# Altium integrated library Wuerth Elektronik SMD Power Choke.IntLib: 844 symbols (part 7 of 9)
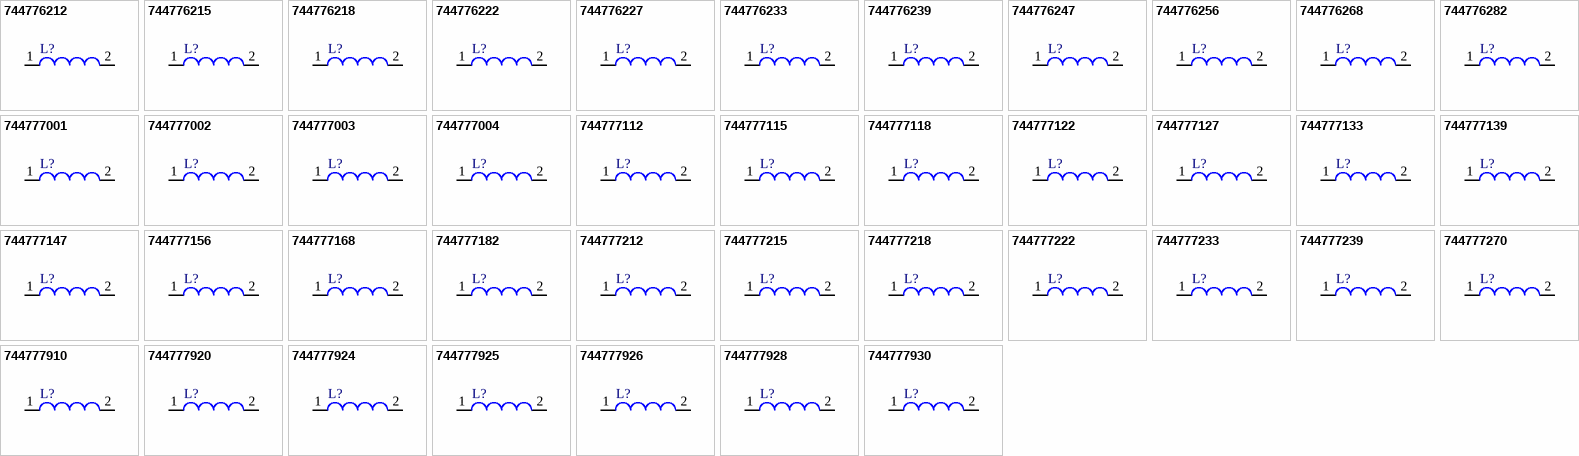
[diagram p28: symbols 744776212 to 744777930]

## 744777112
designator L?
SMD-Shielded Power Inductor WE-PD, L = 12.0 µH; Inductance: 12.0 µH; DatasheetVersion: ver 2, Oct-2004; PackageVersion: 2006; PackageReference: WE-PD-M; PackageDescription: SMD Inductor, 2-Leads, Body 7.3 x 7.3 mm; ComponentLink1Description: Manufacturer URL; ComponentLink1URL: http://www.we-online.com; ComponentLink2Description: Datasheet; ComponentLink2URL: http://www.we-online.de/katalog/media/pdf/744777112.pdf
footprint WE-PD-M (SMD Inductor, 2-Leads, Body 7.3x7.3x4.5 mm)
pins: 1, 2

## 744777115
designator L?
SMD-Shielded Power Inductor WE-PD, L = 15.0 µH; Inductance: 15.0 µH; DatasheetVersion: ver 2, Oct-2004; PackageVersion: 2006; PackageReference: WE-PD-M; PackageDescription: SMD Inductor, 2-Leads, Body 7.3 x 7.3 mm; ComponentLink1Description: Manufacturer URL; ComponentLink1URL: http://www.we-online.com; ComponentLink2Description: Datasheet; ComponentLink2URL: http://www.we-online.de/katalog/media/pdf/744777115.pdf
footprint WE-PD-M (SMD Inductor, 2-Leads, Body 7.3x7.3x4.5 mm)
pins: 1, 2

## 744777118
designator L?
SMD-Shielded Power Inductor WE-PD, L = 18.0 µH; Inductance: 18.0 µH; DatasheetVersion: ver 2, Oct-2004; PackageVersion: 2006; PackageReference: WE-PD-M; PackageDescription: SMD Inductor, 2-Leads, Body 7.3 x 7.3 mm; ComponentLink1Description: Manufacturer URL; ComponentLink1URL: http://www.we-online.com; ComponentLink2Description: Datasheet; ComponentLink2URL: http://www.we-online.de/katalog/media/pdf/744777118.pdf
footprint WE-PD-M (SMD Inductor, 2-Leads, Body 7.3x7.3x4.5 mm)
pins: 1, 2

## 744777122
designator L?
SMD-Shielded Power Inductor WE-PD, L = 22.0 µH; Inductance: 22.0 µH; DatasheetVersion: ver 2, Oct-2004; PackageVersion: 2006; PackageReference: WE-PD-M; PackageDescription: SMD Inductor, 2-Leads, Body 7.3 x 7.3 mm; ComponentLink1Description: Manufacturer URL; ComponentLink1URL: http://www.we-online.com; ComponentLink2Description: Datasheet; ComponentLink2URL: http://www.we-online.de/katalog/media/pdf/744777122.pdf
footprint WE-PD-M (SMD Inductor, 2-Leads, Body 7.3x7.3x4.5 mm)
pins: 1, 2

## 744777127
designator L?
SMD-Shielded Power Inductor WE-PD, L = 27.0 µH; Inductance: 27.0 µH; DatasheetVersion: ver 2, Oct-2004; PackageVersion: 2006; PackageReference: WE-PD-M; PackageDescription: SMD Inductor, 2-Leads, Body 7.3 x 7.3 mm; ComponentLink1Description: Manufacturer URL; ComponentLink1URL: http://www.we-online.com; ComponentLink2Description: Datasheet; ComponentLink2URL: http://www.we-online.de/katalog/media/pdf/744777127.pdf
footprint WE-PD-M (SMD Inductor, 2-Leads, Body 7.3x7.3x4.5 mm)
pins: 1, 2

## 744777133
designator L?
SMD-Shielded Power Inductor WE-PD, L = 33.0 µH; Inductance: 33.0 µH; DatasheetVersion: ver 2, Oct-2004; PackageVersion: 2006; PackageReference: WE-PD-M; PackageDescription: SMD Inductor, 2-Leads, Body 7.3 x 7.3 mm; ComponentLink1Description: Manufacturer URL; ComponentLink1URL: http://www.we-online.com; ComponentLink2Description: Datasheet; ComponentLink2URL: http://www.we-online.de/katalog/media/pdf/744777133.pdf
footprint WE-PD-M (SMD Inductor, 2-Leads, Body 7.3x7.3x4.5 mm)
pins: 1, 2

## 744777139
designator L?
SMD-Shielded Power Inductor WE-PD, L = 39.0 µH; Inductance: 39.0 µH; DatasheetVersion: ver 2, Oct-2004; PackageVersion: 2006; PackageReference: WE-PD-M; PackageDescription: SMD Inductor, 2-Leads, Body 7.3 x 7.3 mm; ComponentLink1Description: Manufacturer URL; ComponentLink1URL: http://www.we-online.com; ComponentLink2Description: Datasheet; ComponentLink2URL: http://www.we-online.de/katalog/media/pdf/744777139.pdf
footprint WE-PD-M (SMD Inductor, 2-Leads, Body 7.3x7.3x4.5 mm)
pins: 1, 2

## 744777147
designator L?
SMD-Shielded Power Inductor WE-PD, L = 47.0 µH; Inductance: 47.0 µH; DatasheetVersion: ver 3, Jan-2006; PackageVersion: 2006; PackageReference: WE-PD-M; PackageDescription: SMD Inductor, 2-Leads, Body 7.3 x 7.3 mm; ComponentLink1Description: Manufacturer URL; ComponentLink1URL: http://www.we-online.com; ComponentLink2Description: Datasheet; ComponentLink2URL: http://www.we-online.de/katalog/media/pdf/744777147.pdf
footprint WE-PD-M (SMD Inductor, 2-Leads, Body 7.3x7.3x4.5 mm)
pins: 1, 2

## 744777156
designator L?
SMD-Shielded Power Inductor WE-PD, L = 56.0 µH; Inductance: 56.0 µH; DatasheetVersion: ver 2, Oct-2004; PackageVersion: 2006; PackageReference: WE-PD-M; PackageDescription: SMD Inductor, 2-Leads, Body 7.3 x 7.3 mm; ComponentLink1Description: Manufacturer URL; ComponentLink1URL: http://www.we-online.com; ComponentLink2Description: Datasheet; ComponentLink2URL: http://www.we-online.de/katalog/media/pdf/744777156.pdf
footprint WE-PD-M (SMD Inductor, 2-Leads, Body 7.3x7.3x4.5 mm)
pins: 1, 2

## 744777168
designator L?
SMD-Shielded Power Inductor WE-PD, L = 68.0 µH; Inductance: 68.0 µH; DatasheetVersion: ver 2, Oct-2004; PackageVersion: 2006; PackageReference: WE-PD-M; PackageDescription: SMD Inductor, 2-Leads, Body 7.3 x 7.3 mm; ComponentLink1Description: Manufacturer URL; ComponentLink1URL: http://www.we-online.com; ComponentLink2Description: Datasheet; ComponentLink2URL: http://www.we-online.de/katalog/media/pdf/744777168.pdf
footprint WE-PD-M (SMD Inductor, 2-Leads, Body 7.3x7.3x4.5 mm)
pins: 1, 2

## 744777182
designator L?
SMD-Shielded Power Inductor WE-PD, L = 82.0 µH; Inductance: 82.0 µH; DatasheetVersion: ver 2, Oct-2004; PackageVersion: 2006; PackageReference: WE-PD-M; PackageDescription: SMD Inductor, 2-Leads, Body 7.3 x 7.3 mm; ComponentLink1Description: Manufacturer URL; ComponentLink1URL: http://www.we-online.com; ComponentLink2Description: Datasheet; ComponentLink2URL: http://www.we-online.de/katalog/media/pdf/744777182.pdf
footprint WE-PD-M (SMD Inductor, 2-Leads, Body 7.3x7.3x4.5 mm)
pins: 1, 2

## 744777212
designator L?
SMD-Shielded Power Inductor WE-PD, L = 120 µH; Inductance: 120 µH; DatasheetVersion: ver 2, Oct-2004; PackageVersion: 2006; PackageReference: WE-PD-M; PackageDescription: SMD Inductor, 2-Leads, Body 7.3 x 7.3 mm; ComponentLink1Description: Manufacturer URL; ComponentLink1URL: http://www.we-online.com; ComponentLink2Description: Datasheet; ComponentLink2URL: http://www.we-online.de/katalog/media/pdf/744777212.pdf
footprint WE-PD-M (SMD Inductor, 2-Leads, Body 7.3x7.3x4.5 mm)
pins: 1, 2

## 744777215
designator L?
SMD-Shielded Power Inductor WE-PD, L = 150 µH; Inductance: 150 µH; DatasheetVersion: ver 2, Oct-2004; PackageVersion: 2006; PackageReference: WE-PD-M; PackageDescription: SMD Inductor, 2-Leads, Body 7.3 x 7.3 mm; ComponentLink1Description: Manufacturer URL; ComponentLink1URL: http://www.we-online.com; ComponentLink2Description: Datasheet; ComponentLink2URL: http://www.we-online.de/katalog/media/pdf/744777215.pdf
footprint WE-PD-M (SMD Inductor, 2-Leads, Body 7.3x7.3x4.5 mm)
pins: 1, 2

## 744777218
designator L?
SMD-Shielded Power Inductor WE-PD, L = 180 µH; Inductance: 180 µH; DatasheetVersion: ver 2, Oct-2004; PackageVersion: 2006; PackageReference: WE-PD-M; PackageDescription: SMD Inductor, 2-Leads, Body 7.3 x 7.3 mm; ComponentLink1Description: Manufacturer URL; ComponentLink1URL: http://www.we-online.com; ComponentLink2Description: Datasheet; ComponentLink2URL: http://www.we-online.de/katalog/media/pdf/744777218.pdf
footprint WE-PD-M (SMD Inductor, 2-Leads, Body 7.3x7.3x4.5 mm)
pins: 1, 2

## 744777222
designator L?
SMD-Shielded Power Inductor WE-PD, L = 220 µH; Inductance: 220 µH; DatasheetVersion: ver 2, Oct-2004; PackageVersion: 2006; PackageReference: WE-PD-M; PackageDescription: SMD Inductor, 2-Leads, Body 7.3 x 7.3 mm; ComponentLink1Description: Manufacturer URL; ComponentLink1URL: http://www.we-online.com; ComponentLink2Description: Datasheet; ComponentLink2URL: http://www.we-online.de/katalog/media/pdf/744777222.pdf
footprint WE-PD-M (SMD Inductor, 2-Leads, Body 7.3x7.3x4.5 mm)
pins: 1, 2

## 744777233
designator L?
SMD-Shielded Power Inductor WE-PD, L = 330 µH; Inductance: 330 µH; DatasheetVersion: ver 2, Oct-2004; PackageVersion: 2006; PackageReference: WE-PD-M; PackageDescription: SMD Inductor, 2-Leads, Body 7.3 x 7.3 mm; ComponentLink1Description: Manufacturer URL; ComponentLink1URL: http://www.we-online.com; ComponentLink2Description: Datasheet; ComponentLink2URL: http://www.we-online.de/katalog/media/pdf/744777233.pdf
footprint WE-PD-M (SMD Inductor, 2-Leads, Body 7.3x7.3x4.5 mm)
pins: 1, 2

## 744777239
designator L?
SMD-Shielded Power Inductor WE-PD, L = 390 µH; Inductance: 390 µH; DatasheetVersion: ver 2, Oct-2004; PackageVersion: 2006; PackageReference: WE-PD-M; PackageDescription: SMD Inductor, 2-Leads, Body 7.3 x 7.3 mm; ComponentLink1Description: Manufacturer URL; ComponentLink1URL: http://www.we-online.com; ComponentLink2Description: Datasheet; ComponentLink2URL: http://www.we-online.de/katalog/media/pdf/744777239.pdf
footprint WE-PD-M (SMD Inductor, 2-Leads, Body 7.3x7.3x4.5 mm)
pins: 1, 2

## 744777270
designator L?
SMD-Shielded Power Inductor WE-PD, L = 270 µH; Inductance: 270 µH; DatasheetVersion: ver 2, Oct-2004; PackageVersion: 2006; PackageReference: WE-PD-M; PackageDescription: SMD Inductor, 2-Leads, Body 7.3 x 7.3 mm; ComponentLink1Description: Manufacturer URL; ComponentLink1URL: http://www.we-online.com; ComponentLink2Description: Datasheet; ComponentLink2URL: http://www.we-online.de/katalog/media/pdf/744777270.pdf
footprint WE-PD-M (SMD Inductor, 2-Leads, Body 7.3x7.3x4.5 mm)
pins: 1, 2

## 744777910
designator L?
SMD-Shielded Power Inductor WE-PD, L = 10.0 µH; Inductance: 10.0 µH; DatasheetVersion: ver 10, Jan-2008; PackageVersion: 2008; PackageReference: WE-PD-M-PB; PackageDescription: SMD Inductor, 2-Leads, Body 7.3 x 7.3 mm; ComponentLink1Description: Manufacturer URL; ComponentLink1URL: http://www.we-online.com; ComponentLink2Description: Datasheet; ComponentLink2URL: http://www.we-online.de/katalog/media/pdf/744777910.pdf
footprint WE-PD-M-PB (SMD Inductor, 2-Leads, Body 7.3x7.3x4.5 mm)
pins: 1, 2

## 744777920
designator L?
SMD-Shielded Power Inductor WE-PD, L = 100 µH; Inductance: 100 µH; DatasheetVersion: ver 10, Jan-2008; PackageVersion: 2008; PackageReference: WE-PD-M-PB; PackageDescription: SMD Inductor, 2-Leads, Body 7.3 x 7.3 mm; ComponentLink1Description: Manufacturer URL; ComponentLink1URL: http://www.we-online.com; ComponentLink2Description: Datasheet; ComponentLink2URL: http://www.we-online.de/katalog/media/pdf/744777920.pdf
footprint WE-PD-M-PB (SMD Inductor, 2-Leads, Body 7.3x7.3x4.5 mm)
pins: 1, 2

## 744777924
designator L?
SMD-Shielded Power Inductor WE-PD, L = 470 µH; Inductance: 470 µH; DatasheetVersion: ver 10, Jan-2008; PackageVersion: 2008; PackageReference: WE-PD-M-PB; PackageDescription: SMD Inductor, 2-Leads, Body 7.3 x 7.3 mm; ComponentLink1Description: Manufacturer URL; ComponentLink1URL: http://www.we-online.com; ComponentLink2Description: Datasheet; ComponentLink2URL: http://www.we-online.de/katalog/media/pdf/744777924.pdf
footprint WE-PD-M-PB (SMD Inductor, 2-Leads, Body 7.3x7.3x4.5 mm)
pins: 1, 2

## 744777925
designator L?
SMD-Shielded Power Inductor WE-PD, L = 560 µH; Inductance: 560 µH; DatasheetVersion: ver 10, Jan-2008; PackageVersion: 2008; PackageReference: WE-PD-M-PB; PackageDescription: SMD Inductor, 2-Leads, Body 7.3 x 7.3 mm; ComponentLink1Description: Manufacturer URL; ComponentLink1URL: http://www.we-online.com; ComponentLink2Description: Datasheet; ComponentLink2URL: http://www.we-online.de/katalog/media/pdf/744777925.pdf
footprint WE-PD-M-PB (SMD Inductor, 2-Leads, Body 7.3x7.3x4.5 mm)
pins: 1, 2

## 744777926
designator L?
SMD-Shielded Power Inductor WE-PD, L = 680 µH; Inductance: 680 µH; DatasheetVersion: ver 10, Jan-2008; PackageVersion: 2008; PackageReference: WE-PD-M-PB; PackageDescription: SMD Inductor, 2-Leads, Body 7.3 x 7.3 mm; ComponentLink1Description: Manufacturer URL; ComponentLink1URL: http://www.we-online.com; ComponentLink2Description: Datasheet; ComponentLink2URL: http://www.we-online.de/katalog/media/pdf/744777926.pdf
footprint WE-PD-M-PB (SMD Inductor, 2-Leads, Body 7.3x7.3x4.5 mm)
pins: 1, 2

## 744777928
designator L?
SMD-Shielded Power Inductor WE-PD, L = 820 µH; Inductance: 820 µH; DatasheetVersion: ver 10, Jan-2008; PackageVersion: 2008; PackageReference: WE-PD-M-PB; PackageDescription: SMD Inductor, 2-Leads, Body 7.3 x 7.3 mm; ComponentLink1Description: Manufacturer URL; ComponentLink1URL: http://www.we-online.com; ComponentLink2Description: Datasheet; ComponentLink2URL: http://www.we-online.de/katalog/media/pdf/744777928.pdf
footprint WE-PD-M-PB (SMD Inductor, 2-Leads, Body 7.3x7.3x4.5 mm)
pins: 1, 2

## 744777930
designator L?
SMD-Shielded Power Inductor WE-PD, L = 1000 µH; Inductance: 1000 µH; DatasheetVersion: ver 10, Jan-2008; PackageVersion: 2008; PackageReference: WE-PD-M-PB; PackageDescription: SMD Inductor, 2-Leads, Body 7.3 x 7.3 mm; ComponentLink1Description: Manufacturer URL; ComponentLink1URL: http://www.we-online.com; ComponentLink2Description: Datasheet; ComponentLink2URL: http://www.we-online.de/katalog/media/pdf/744777930.pdf
footprint WE-PD-M-PB (SMD Inductor, 2-Leads, Body 7.3x7.3x4.5 mm)
pins: 1, 2

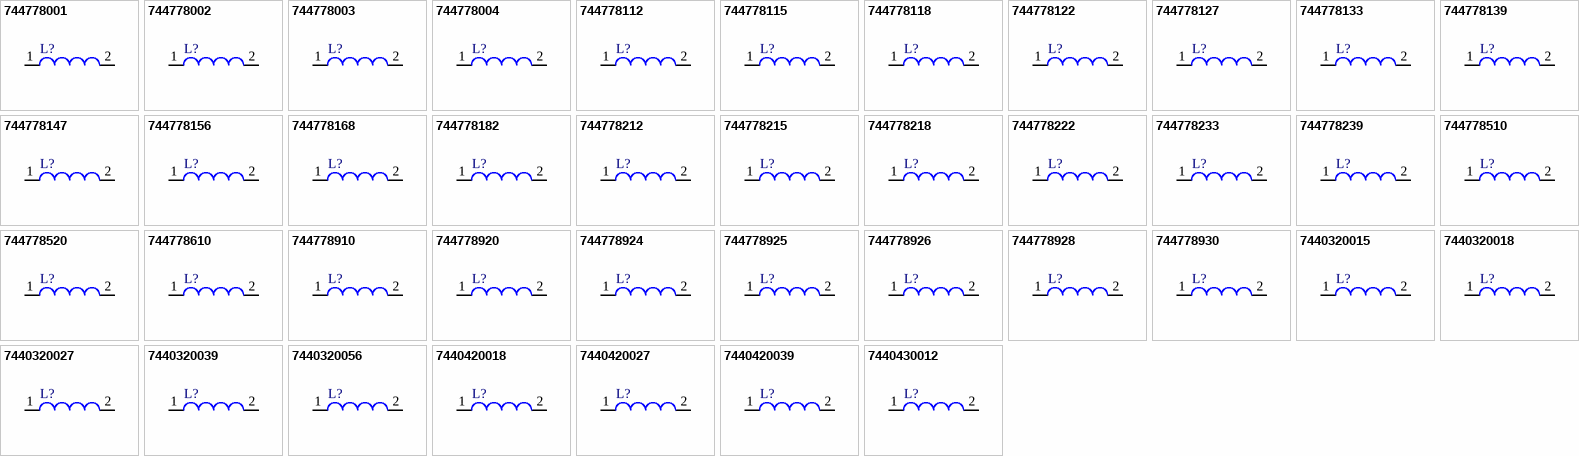
[diagram p15: symbols 744778001 to 7440430012]

## 744778001
designator L?
SMD-Shielded Power Inductor WE-PD, L = 1.00 µH; Inductance: 1.00 µH; DatasheetVersion: ver 5, Oct-2004; PackageVersion: 2004; PackageReference: WE-PD-S; PackageDescription: SMD Inductor, 2-Leads, Body 7.3 x 7.3 mm; ComponentLink1Description: Manufacturer URL; ComponentLink1URL: http://www.we-online.com; ComponentLink2Description: Datasheet; ComponentLink2URL: http://www.we-online.de/katalog/media/pdf/744778001.pdf
footprint WE-PD-S (SMD Inductor, 2-Leads, Body 7.3x7.3x3.4 mm)
pins: 1, 2

## 744778002
designator L?
SMD-Shielded Power Inductor WE-PD, L = 2.20 µH; Inductance: 2.20 µH; DatasheetVersion: ver 5, Oct-2004; PackageVersion: 2004; PackageReference: WE-PD-S; PackageDescription: SMD Inductor, 2-Leads, Body 7.3 x 7.3 mm; ComponentLink1Description: Manufacturer URL; ComponentLink1URL: http://www.we-online.com; ComponentLink2Description: Datasheet; ComponentLink2URL: http://www.we-online.de/katalog/media/pdf/744778002.pdf
footprint WE-PD-S (SMD Inductor, 2-Leads, Body 7.3x7.3x3.4 mm)
pins: 1, 2

## 744778003
designator L?
SMD-Shielded Power Inductor WE-PD, L = 3.30 µH; Inductance: 3.30 µH; DatasheetVersion: ver 1, Nov-2007; PackageVersion: 2004; PackageReference: WE-PD-S; PackageDescription: SMD Inductor, 2-Leads, Body 7.3 x 7.3 mm; ComponentLink1Description: Manufacturer URL; ComponentLink1URL: http://www.we-online.com; ComponentLink2Description: Datasheet; ComponentLink2URL: http://www.we-online.de/katalog/media/pdf/744778003.pdf
footprint WE-PD-S (SMD Inductor, 2-Leads, Body 7.3x7.3x3.4 mm)
pins: 1, 2

## 744778004
designator L?
SMD-Shielded Power Inductor WE-PD, L = 4.70 µH; Inductance: 4.70 µH; DatasheetVersion: ver 5, Oct-2004; PackageVersion: 2004; PackageReference: WE-PD-S; PackageDescription: SMD Inductor, 2-Leads, Body 7.3 x 7.3 mm; ComponentLink1Description: Manufacturer URL; ComponentLink1URL: http://www.we-online.com; ComponentLink2Description: Datasheet; ComponentLink2URL: http://www.we-online.de/katalog/media/pdf/744778004.pdf
footprint WE-PD-S (SMD Inductor, 2-Leads, Body 7.3x7.3x3.4 mm)
pins: 1, 2

## 744778112
designator L?
SMD-Shielded Power Inductor WE-PD, L = 12.0 µH; Inductance: 12.0 µH; DatasheetVersion: ver 5, Oct-2004; PackageVersion: 2004; PackageReference: WE-PD-S; PackageDescription: SMD Inductor, 2-Leads, Body 7.3 x 7.3 mm; ComponentLink1Description: Manufacturer URL; ComponentLink1URL: http://www.we-online.com; ComponentLink2Description: Datasheet; ComponentLink2URL: http://www.we-online.de/katalog/media/pdf/744778112.pdf
footprint WE-PD-S (SMD Inductor, 2-Leads, Body 7.3x7.3x3.4 mm)
pins: 1, 2

## 744778115
designator L?
SMD-Shielded Power Inductor WE-PD, L = 15.0 µH; Inductance: 15.0 µH; DatasheetVersion: ver 5, Oct-2004; PackageVersion: 2004; PackageReference: WE-PD-S; PackageDescription: SMD Inductor, 2-Leads, Body 7.3 x 7.3 mm; ComponentLink1Description: Manufacturer URL; ComponentLink1URL: http://www.we-online.com; ComponentLink2Description: Datasheet; ComponentLink2URL: http://www.we-online.de/katalog/media/pdf/744778115.pdf
footprint WE-PD-S (SMD Inductor, 2-Leads, Body 7.3x7.3x3.4 mm)
pins: 1, 2

## 744778118
designator L?
SMD-Shielded Power Inductor WE-PD, L = 18.0 µH; Inductance: 18.0 µH; DatasheetVersion: ver 5, Oct-2004; PackageVersion: 2004; PackageReference: WE-PD-S; PackageDescription: SMD Inductor, 2-Leads, Body 7.3 x 7.3 mm; ComponentLink1Description: Manufacturer URL; ComponentLink1URL: http://www.we-online.com; ComponentLink2Description: Datasheet; ComponentLink2URL: http://www.we-online.de/katalog/media/pdf/744778118.pdf
footprint WE-PD-S (SMD Inductor, 2-Leads, Body 7.3x7.3x3.4 mm)
pins: 1, 2

## 744778122
designator L?
SMD-Shielded Power Inductor WE-PD, L = 22.0 µH; Inductance: 22.0 µH; DatasheetVersion: ver 5, Oct-2004; PackageVersion: 2004; PackageReference: WE-PD-S; PackageDescription: SMD Inductor, 2-Leads, Body 7.3 x 7.3 mm; ComponentLink1Description: Manufacturer URL; ComponentLink1URL: http://www.we-online.com; ComponentLink2Description: Datasheet; ComponentLink2URL: http://www.we-online.de/katalog/media/pdf/744778122.pdf
footprint WE-PD-S (SMD Inductor, 2-Leads, Body 7.3x7.3x3.4 mm)
pins: 1, 2

## 744778127
designator L?
SMD-Shielded Power Inductor WE-PD, L = 27.0 µH; Inductance: 27.0 µH; DatasheetVersion: ver 5, Oct-2004; PackageVersion: 2004; PackageReference: WE-PD-S; PackageDescription: SMD Inductor, 2-Leads, Body 7.3 x 7.3 mm; ComponentLink1Description: Manufacturer URL; ComponentLink1URL: http://www.we-online.com; ComponentLink2Description: Datasheet; ComponentLink2URL: http://www.we-online.de/katalog/media/pdf/744778127.pdf
footprint WE-PD-S (SMD Inductor, 2-Leads, Body 7.3x7.3x3.4 mm)
pins: 1, 2

## 744778133
designator L?
SMD-Shielded Power Inductor WE-PD, L = 33.0 µH; Inductance: 33.0 µH; DatasheetVersion: ver 5, Oct-2004; PackageVersion: 2004; PackageReference: WE-PD-S; PackageDescription: SMD Inductor, 2-Leads, Body 7.3 x 7.3 mm; ComponentLink1Description: Manufacturer URL; ComponentLink1URL: http://www.we-online.com; ComponentLink2Description: Datasheet; ComponentLink2URL: http://www.we-online.de/katalog/media/pdf/744778133.pdf
footprint WE-PD-S (SMD Inductor, 2-Leads, Body 7.3x7.3x3.4 mm)
pins: 1, 2

## 744778139
designator L?
SMD-Shielded Power Inductor WE-PD, L = 39.0 µH; Inductance: 39.0 µH; DatasheetVersion: ver 5, Oct-2004; PackageVersion: 2004; PackageReference: WE-PD-S; PackageDescription: SMD Inductor, 2-Leads, Body 7.3 x 7.3 mm; ComponentLink1Description: Manufacturer URL; ComponentLink1URL: http://www.we-online.com; ComponentLink2Description: Datasheet; ComponentLink2URL: http://www.we-online.de/katalog/media/pdf/744778139.pdf
footprint WE-PD-S (SMD Inductor, 2-Leads, Body 7.3x7.3x3.4 mm)
pins: 1, 2

## 744778147
designator L?
SMD-Shielded Power Inductor WE-PD, L = 47.0 µH; Inductance: 47.0 µH; DatasheetVersion: ver 5, Oct-2004; PackageVersion: 2004; PackageReference: WE-PD-S; PackageDescription: SMD Inductor, 2-Leads, Body 7.3 x 7.3 mm; ComponentLink1Description: Manufacturer URL; ComponentLink1URL: http://www.we-online.com; ComponentLink2Description: Datasheet; ComponentLink2URL: http://www.we-online.de/katalog/media/pdf/744778147.pdf
footprint WE-PD-S (SMD Inductor, 2-Leads, Body 7.3x7.3x3.4 mm)
pins: 1, 2

## 744778156
designator L?
SMD-Shielded Power Inductor WE-PD, L = 56.0 µH; Inductance: 56.0 µH; DatasheetVersion: ver 5, Oct-2004; PackageVersion: 2004; PackageReference: WE-PD-S; PackageDescription: SMD Inductor, 2-Leads, Body 7.3 x 7.3 mm; ComponentLink1Description: Manufacturer URL; ComponentLink1URL: http://www.we-online.com; ComponentLink2Description: Datasheet; ComponentLink2URL: http://www.we-online.de/katalog/media/pdf/744778156.pdf
footprint WE-PD-S (SMD Inductor, 2-Leads, Body 7.3x7.3x3.4 mm)
pins: 1, 2

## 744778168
designator L?
SMD-Shielded Power Inductor WE-PD, L = 68.0 µH; Inductance: 68.0 µH; DatasheetVersion: ver 5, Oct-2004; PackageVersion: 2004; PackageReference: WE-PD-S; PackageDescription: SMD Inductor, 2-Leads, Body 7.3 x 7.3 mm; ComponentLink1Description: Manufacturer URL; ComponentLink1URL: http://www.we-online.com; ComponentLink2Description: Datasheet; ComponentLink2URL: http://www.we-online.de/katalog/media/pdf/744778168.pdf
footprint WE-PD-S (SMD Inductor, 2-Leads, Body 7.3x7.3x3.4 mm)
pins: 1, 2

## 744778182
designator L?
SMD-Shielded Power Inductor WE-PD, L = 82.0 µH; Inductance: 82.0 µH; DatasheetVersion: ver 5, Oct-2004; PackageVersion: 2004; PackageReference: WE-PD-S; PackageDescription: SMD Inductor, 2-Leads, Body 7.3 x 7.3 mm; ComponentLink1Description: Manufacturer URL; ComponentLink1URL: http://www.we-online.com; ComponentLink2Description: Datasheet; ComponentLink2URL: http://www.we-online.de/katalog/media/pdf/744778182.pdf
footprint WE-PD-S (SMD Inductor, 2-Leads, Body 7.3x7.3x3.4 mm)
pins: 1, 2

## 744778212
designator L?
SMD-Shielded Power Inductor WE-PD, L = 120 µH; Inductance: 120 µH; DatasheetVersion: ver 5, Oct-2004; PackageVersion: 2004; PackageReference: WE-PD-S; PackageDescription: SMD Inductor, 2-Leads, Body 7.3 x 7.3 mm; ComponentLink1Description: Manufacturer URL; ComponentLink1URL: http://www.we-online.com; ComponentLink2Description: Datasheet; ComponentLink2URL: http://www.we-online.de/katalog/media/pdf/744778212.pdf
footprint WE-PD-S (SMD Inductor, 2-Leads, Body 7.3x7.3x3.4 mm)
pins: 1, 2

## 744778215
designator L?
SMD-Shielded Power Inductor WE-PD, L = 150 µH; Inductance: 150 µH; DatasheetVersion: ver 5, Oct-2004; PackageVersion: 2004; PackageReference: WE-PD-S; PackageDescription: SMD Inductor, 2-Leads, Body 7.3 x 7.3 mm; ComponentLink1Description: Manufacturer URL; ComponentLink1URL: http://www.we-online.com; ComponentLink2Description: Datasheet; ComponentLink2URL: http://www.we-online.de/katalog/media/pdf/744778215.pdf
footprint WE-PD-S (SMD Inductor, 2-Leads, Body 7.3x7.3x3.4 mm)
pins: 1, 2

## 744778218
designator L?
SMD-Shielded Power Inductor WE-PD, L = 180 µH; Inductance: 180 µH; DatasheetVersion: ver 5, Oct-2004; PackageVersion: 2004; PackageReference: WE-PD-S; PackageDescription: SMD Inductor, 2-Leads, Body 7.3 x 7.3 mm; ComponentLink1Description: Manufacturer URL; ComponentLink1URL: http://www.we-online.com; ComponentLink2Description: Datasheet; ComponentLink2URL: http://www.we-online.de/katalog/media/pdf/744778218.pdf
footprint WE-PD-S (SMD Inductor, 2-Leads, Body 7.3x7.3x3.4 mm)
pins: 1, 2

## 744778222
designator L?
SMD-Shielded Power Inductor WE-PD, L = 220 µH; Inductance: 220 µH; DatasheetVersion: ver 5, Oct-2004; PackageVersion: 2004; PackageReference: WE-PD-S; PackageDescription: SMD Inductor, 2-Leads, Body 7.3 x 7.3 mm; ComponentLink1Description: Manufacturer URL; ComponentLink1URL: http://www.we-online.com; ComponentLink2Description: Datasheet; ComponentLink2URL: http://www.we-online.de/katalog/media/pdf/744778222.pdf
footprint WE-PD-S (SMD Inductor, 2-Leads, Body 7.3x7.3x3.4 mm)
pins: 1, 2

## 744778233
designator L?
SMD-Shielded Power Inductor WE-PD, L = 330 µH; Inductance: 330 µH; DatasheetVersion: ver 6, Jan-2006; PackageVersion: 2004; PackageReference: WE-PD-S; PackageDescription: SMD Inductor, 2-Leads, Body 7.3 x 7.3 mm; ComponentLink1Description: Manufacturer URL; ComponentLink1URL: http://www.we-online.com; ComponentLink2Description: Datasheet; ComponentLink2URL: http://www.we-online.de/katalog/media/pdf/744778233.pdf
footprint WE-PD-S (SMD Inductor, 2-Leads, Body 7.3x7.3x3.4 mm)
pins: 1, 2

## 744778239
designator L?
SMD-Shielded Power Inductor WE-PD, L = 390 µH; Inductance: 390 µH; DatasheetVersion: ver 5, Oct-2004; PackageVersion: 2004; PackageReference: WE-PD-S; PackageDescription: SMD Inductor, 2-Leads, Body 7.3 x 7.3 mm; ComponentLink1Description: Manufacturer URL; ComponentLink1URL: http://www.we-online.com; ComponentLink2Description: Datasheet; ComponentLink2URL: http://www.we-online.de/katalog/media/pdf/744778239.pdf
footprint WE-PD-S (SMD Inductor, 2-Leads, Body 7.3x7.3x3.4 mm)
pins: 1, 2

## 744778510
designator L?
SMD-Shielded Power Inductor WE-PD, L = 10.0 µH; Inductance: 10.0 µH; DatasheetVersion: ver 2, Oct-2004; PackageVersion: 2004; PackageReference: WE-PD-XS-PB; PackageDescription: SMD Inductor, 2-Leads, Body 5.9 x 6.2 mm; ComponentLink1Description: Manufacturer URL; ComponentLink1URL: http://www.we-online.com; ComponentLink2Description: Datasheet; ComponentLink2URL: http://www.we-online.de/katalog/media/pdf/744778510.pdf
footprint WE-PD-XS-PB (SMD Inductor, 2-Leads, Body 5.9x6.2x3.3 mm)
pins: 1, 2

## 744778520
designator L?
SMD-Shielded Power Inductor WE-PD, L = 100 µH; Inductance: 100 µH; DatasheetVersion: ver 2, Oct-2004; PackageVersion: 2004; PackageReference: WE-PD-XS-PB; PackageDescription: SMD Inductor, 2-Leads, Body 5.9 x 6.2 mm; ComponentLink1Description: Manufacturer URL; ComponentLink1URL: http://www.we-online.com; ComponentLink2Description: Datasheet; ComponentLink2URL: http://www.we-online.de/katalog/media/pdf/744778520.pdf
footprint WE-PD-XS-PB (SMD Inductor, 2-Leads, Body 5.9x6.2x3.3 mm)
pins: 1, 2

## 744778610
designator L?
SMD-Shielded Power Inductor WE-PD, L = 10.0 µH; Inductance: 10.0 µH; DatasheetVersion: ver 1, Sep-2008; PackageVersion: 2008; PackageReference: WE-PD-XSH-PB; PackageDescription: SMD Inductor, 2-Leads, Body 5.9 x 6.2 mm; ComponentLink1Description: Manufacturer URL; ComponentLink1URL: http://www.we-online.com; ComponentLink2Description: Datasheet; ComponentLink2URL: http://www.we-online.de/katalog/media/pdf/744778610.pdf
footprint WE-PD-XSH-PB (SMD Inductor, 2-Leads, Body 5.9x6.2x5.1 mm)
pins: 1, 2

## 744778910
designator L?
SMD-Shielded Power Inductor WE-PD, L = 10.0 µH; Inductance: 10.0 µH; DatasheetVersion: ver 5, Jan-2006; PackageVersion: 2006; PackageReference: WE-PD-S-PB; PackageDescription: SMD Inductor, 2-Leads, Body 7.3 x 7.3 mm; ComponentLink1Description: Manufacturer URL; ComponentLink1URL: http://www.we-online.com; ComponentLink2Description: Datasheet; ComponentLink2URL: http://www.we-online.de/katalog/media/pdf/744778910.pdf
footprint WE-PD-S-PB (SMD Inductor, 2-Leads, Body 7.3x7.3x3.5 mm)
pins: 1, 2

## 744778920
designator L?
SMD-Shielded Power Inductor WE-PD, L = 100 µH; Inductance: 100 µH; DatasheetVersion: ver 5, Jan-2006; PackageVersion: 2006; PackageReference: WE-PD-S-PB; PackageDescription: SMD Inductor, 2-Leads, Body 7.3 x 7.3 mm; ComponentLink1Description: Manufacturer URL; ComponentLink1URL: http://www.we-online.com; ComponentLink2Description: Datasheet; ComponentLink2URL: http://www.we-online.de/katalog/media/pdf/744778920.pdf
footprint WE-PD-S-PB (SMD Inductor, 2-Leads, Body 7.3x7.3x3.5 mm)
pins: 1, 2

## 744778924
designator L?
SMD-Shielded Power Inductor WE-PD, L = 470 µH; Inductance: 470 µH; DatasheetVersion: ver 5, Jan-2006; PackageVersion: 2006; PackageReference: WE-PD-S-PB; PackageDescription: SMD Inductor, 2-Leads, Body 7.3 x 7.3 mm; ComponentLink1Description: Manufacturer URL; ComponentLink1URL: http://www.we-online.com; ComponentLink2Description: Datasheet; ComponentLink2URL: http://www.we-online.de/katalog/media/pdf/744778924.pdf
footprint WE-PD-S-PB (SMD Inductor, 2-Leads, Body 7.3x7.3x3.5 mm)
pins: 1, 2

## 744778925
designator L?
SMD-Shielded Power Inductor WE-PD, L = 560 µH; Inductance: 560 µH; DatasheetVersion: ver 5, Jan-2006; PackageVersion: 2006; PackageReference: WE-PD-S-PB; PackageDescription: SMD Inductor, 2-Leads, Body 7.3 x 7.3 mm; ComponentLink1Description: Manufacturer URL; ComponentLink1URL: http://www.we-online.com; ComponentLink2Description: Datasheet; ComponentLink2URL: http://www.we-online.de/katalog/media/pdf/744778925.pdf
footprint WE-PD-S-PB (SMD Inductor, 2-Leads, Body 7.3x7.3x3.5 mm)
pins: 1, 2

## 744778926
designator L?
SMD-Shielded Power Inductor WE-PD, L = 680 µH; Inductance: 680 µH; DatasheetVersion: ver 5, Jan-2006; PackageVersion: 2006; PackageReference: WE-PD-S-PB; PackageDescription: SMD Inductor, 2-Leads, Body 7.3 x 7.3 mm; ComponentLink1Description: Manufacturer URL; ComponentLink1URL: http://www.we-online.com; ComponentLink2Description: Datasheet; ComponentLink2URL: http://www.we-online.de/katalog/media/pdf/744778926.pdf
footprint WE-PD-S-PB (SMD Inductor, 2-Leads, Body 7.3x7.3x3.5 mm)
pins: 1, 2

## 744778928
designator L?
SMD-Shielded Power Inductor WE-PD, L = 820 µH; Inductance: 820 µH; DatasheetVersion: ver 5, Jan-2006; PackageVersion: 2006; PackageReference: WE-PD-S-PB; PackageDescription: SMD Inductor, 2-Leads, Body 7.3 x 7.3 mm; ComponentLink1Description: Manufacturer URL; ComponentLink1URL: http://www.we-online.com; ComponentLink2Description: Datasheet; ComponentLink2URL: http://www.we-online.de/katalog/media/pdf/744778928.pdf
footprint WE-PD-S-PB (SMD Inductor, 2-Leads, Body 7.3x7.3x3.5 mm)
pins: 1, 2

## 744778930
designator L?
SMD-Shielded Power Inductor WE-PD, L = 1000 µH; Inductance: 1000 µH; DatasheetVersion: ver 5, Jan-2006; PackageVersion: 2006; PackageReference: WE-PD-S-PB; PackageDescription: SMD Inductor, 2-Leads, Body 7.3 x 7.3 mm; ComponentLink1Description: Manufacturer URL; ComponentLink1URL: http://www.we-online.com; ComponentLink2Description: Datasheet; ComponentLink2URL: http://www.we-online.de/katalog/media/pdf/744778930.pdf
footprint WE-PD-S-PB (SMD Inductor, 2-Leads, Body 7.3x7.3x3.5 mm)
pins: 1, 2

## 7440320015
designator L?
SMD-RF-Inductor WE-LQ, L = 1.50 µH; Inductance: 1.50 µH; DatasheetVersion: ver 3, Jul-2006; PackageVersion: 2006; PackageReference: WE-LQ-M; PackageDescription: Inductor, 2-Leads, Body 3.2 x 2.5 mm; ComponentLink1Description: Manufacturer URL; ComponentLink1URL: http://www.we-online.com; ComponentLink2Description: Datasheet; ComponentLink2URL: http://www.we-online.de/katalog/media/pdf/7440320015.pdf
footprint WE-LQ-M (Inductor, 2-Leads, Body 3.2x2.5x2.3 mm)
pins: 1, 2

## 7440320018
designator L?
SMD-RF-Inductor WE-LQ, L = 1.80 µH; Inductance: 1.80 µH; DatasheetVersion: ver 3, Jul-2006; PackageVersion: 2006; PackageReference: WE-LQ-M; PackageDescription: Inductor, 2-Leads, Body 3.2 x 2.5 mm; ComponentLink1Description: Manufacturer URL; ComponentLink1URL: http://www.we-online.com; ComponentLink2Description: Datasheet; ComponentLink2URL: http://www.we-online.de/katalog/media/pdf/7440320018.pdf
footprint WE-LQ-M (Inductor, 2-Leads, Body 3.2x2.5x2.3 mm)
pins: 1, 2

## 7440320027
designator L?
SMD-RF-Inductor WE-LQ, L = 2.70 µH; Inductance: 2.70 µH; DatasheetVersion: ver 3, Jul-2006; PackageVersion: 2006; PackageReference: WE-LQ-M; PackageDescription: Inductor, 2-Leads, Body 3.2 x 2.5 mm; ComponentLink1Description: Manufacturer URL; ComponentLink1URL: http://www.we-online.com; ComponentLink2Description: Datasheet; ComponentLink2URL: http://www.we-online.de/katalog/media/pdf/7440320027.pdf
footprint WE-LQ-M (Inductor, 2-Leads, Body 3.2x2.5x2.3 mm)
pins: 1, 2

## 7440320039
designator L?
SMD-RF-Inductor WE-LQ, L = 3.90 µH; Inductance: 3.90 µH; DatasheetVersion: ver 3, Jul-2006; PackageVersion: 2006; PackageReference: WE-LQ-M; PackageDescription: Inductor, 2-Leads, Body 3.2 x 2.5 mm; ComponentLink1Description: Manufacturer URL; ComponentLink1URL: http://www.we-online.com; ComponentLink2Description: Datasheet; ComponentLink2URL: http://www.we-online.de/katalog/media/pdf/7440320039.pdf
footprint WE-LQ-M (Inductor, 2-Leads, Body 3.2x2.5x2.3 mm)
pins: 1, 2

## 7440320056
designator L?
SMD-RF-Inductor WE-LQ, L = 5.60 µH; Inductance: 5.60 µH; DatasheetVersion: ver 3, Jul-2006; PackageVersion: 2006; PackageReference: WE-LQ-M; PackageDescription: Inductor, 2-Leads, Body 3.2 x 2.5 mm; ComponentLink1Description: Manufacturer URL; ComponentLink1URL: http://www.we-online.com; ComponentLink2Description: Datasheet; ComponentLink2URL: http://www.we-online.de/katalog/media/pdf/7440320056.pdf
footprint WE-LQ-M (Inductor, 2-Leads, Body 3.2x2.5x2.3 mm)
pins: 1, 2

## 7440420018
designator L?
SMD Shielded Tiny Power Inductor WE-TPC, L = 1.80 µH; Inductance: 1.80 µH; DatasheetVersion: ver 6, Aug-2010; PackageVersion: 2010; PackageReference: WE-TPC-4818-M; PackageDescription: SMD Inductor, 2-Leads, Body 4.8 x 4.8 mm; ComponentLink1Description: Manufacturer URL; ComponentLink1URL: http://www.we-online.com; ComponentLink2Description: Datasheet; ComponentLink2URL: http://www.we-online.de/katalog/media/pdf/7440420018.pdf
footprint WE-TPC-4818-M (SMD Inductor, 2-Leads, Body 4.8x4.8x2.0 mm)
pins: 1, 2

## 7440420027
designator L?
SMD Shielded Tiny Power Inductor WE-TPC, L = 2.70 µH; Inductance: 2.70 µH; DatasheetVersion: ver 6, Aug-2010; PackageVersion: 2010; PackageReference: WE-TPC-4818-M; PackageDescription: SMD Inductor, 2-Leads, Body 4.8 x 4.8 mm; ComponentLink1Description: Manufacturer URL; ComponentLink1URL: http://www.we-online.com; ComponentLink2Description: Datasheet; ComponentLink2URL: http://www.we-online.de/katalog/media/pdf/7440420027.pdf
footprint WE-TPC-4818-M (SMD Inductor, 2-Leads, Body 4.8x4.8x2.0 mm)
pins: 1, 2

## 7440420039
designator L?
SMD Shielded Tiny Power Inductor WE-TPC, L = 3.90 µH; Inductance: 3.90 µH; DatasheetVersion: ver 6, Aug-2010; PackageVersion: 2010; PackageReference: WE-TPC-4818-M; PackageDescription: SMD Inductor, 2-Leads, Body 4.8 x 4.8 mm; ComponentLink1Description: Manufacturer URL; ComponentLink1URL: http://www.we-online.com; ComponentLink2Description: Datasheet; ComponentLink2URL: http://www.we-online.de/katalog/media/pdf/7440420039.pdf
footprint WE-TPC-4818-M (SMD Inductor, 2-Leads, Body 4.8x4.8x2.0 mm)
pins: 1, 2

## 7440430012
designator L?
SMD Shielded Tiny Power Inductor WE-TPC, L = 1.20 µH; Inductance: 1.20 µH; DatasheetVersion: ver 6, Aug-2010; PackageVersion: 2010; PackageReference: WE-TPC-4828-MH; PackageDescription: SMD Inductor, 2-Leads, Body 4.8 x 4.8 mm; ComponentLink1Description: Manufacturer URL; ComponentLink1URL: http://www.we-online.com; ComponentLink2Description: Datasheet; ComponentLink2URL: http://www.we-online.de/katalog/media/pdf/7440430012.pdf
footprint WE-TPC-4828-MH (SMD Inductor, 2-Leads, Body 4.8x4.8x3.0 mm)
pins: 1, 2

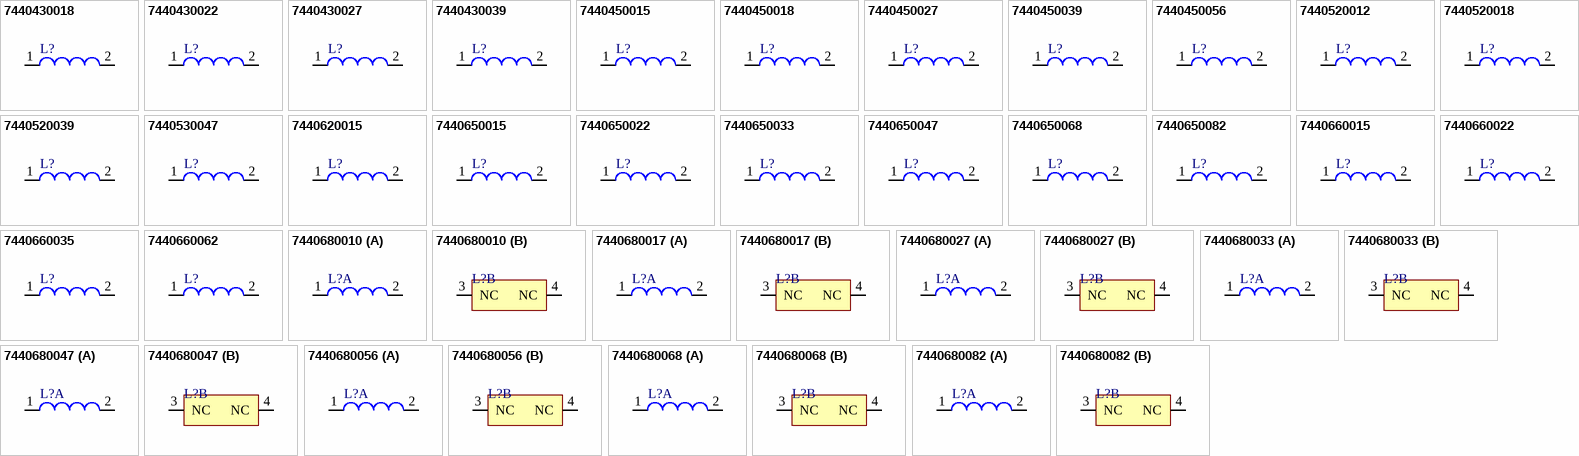
[diagram p16: symbols 7440430018 to 7440680082]

## 7440430018
designator L?
SMD Shielded Tiny Power Inductor WE-TPC, L = 1.80 µH; Inductance: 1.80 µH; DatasheetVersion: ver 6, Aug-2010; PackageVersion: 2010; PackageReference: WE-TPC-4828-MH; PackageDescription: SMD Inductor, 2-Leads, Body 4.8 x 4.8 mm; ComponentLink1Description: Manufacturer URL; ComponentLink1URL: http://www.we-online.com; ComponentLink2Description: Datasheet; ComponentLink2URL: http://www.we-online.de/katalog/media/pdf/7440430018.pdf
footprint WE-TPC-4828-MH (SMD Inductor, 2-Leads, Body 4.8x4.8x3.0 mm)
pins: 1, 2

## 7440430022
designator L?
SMD Shielded Tiny Power Inductor WE-TPC, L = 2.20 µH; Inductance: 2.20 µH; DatasheetVersion: ver 6, Aug-2010; PackageVersion: 2010; PackageReference: WE-TPC-4828-MH; PackageDescription: SMD Inductor, 2-Leads, Body 4.8 x 4.8 mm; ComponentLink1Description: Manufacturer URL; ComponentLink1URL: http://www.we-online.com; ComponentLink2Description: Datasheet; ComponentLink2URL: http://www.we-online.de/katalog/media/pdf/7440430022.pdf
footprint WE-TPC-4828-MH (SMD Inductor, 2-Leads, Body 4.8x4.8x3.0 mm)
pins: 1, 2

## 7440430027
designator L?
SMD Shielded Tiny Power Inductor WE-TPC, L = 2.70 µH; Inductance: 2.70 µH; DatasheetVersion: ver 6, Aug-2010; PackageVersion: 2010; PackageReference: WE-TPC-4828-MH; PackageDescription: SMD Inductor, 2-Leads, Body 4.8 x 4.8 mm; ComponentLink1Description: Manufacturer URL; ComponentLink1URL: http://www.we-online.com; ComponentLink2Description: Datasheet; ComponentLink2URL: http://www.we-online.de/katalog/media/pdf/7440430027.pdf
footprint WE-TPC-4828-MH (SMD Inductor, 2-Leads, Body 4.8x4.8x3.0 mm)
pins: 1, 2

## 7440430039
designator L?
SMD Shielded Tiny Power Inductor WE-TPC, L = 3.90 µH; Inductance: 3.90 µH; DatasheetVersion: ver 6, Aug-2010; PackageVersion: 2010; PackageReference: WE-TPC-4828-MH; PackageDescription: SMD Inductor, 2-Leads, Body 4.8 x 4.8 mm; ComponentLink1Description: Manufacturer URL; ComponentLink1URL: http://www.we-online.com; ComponentLink2Description: Datasheet; ComponentLink2URL: http://www.we-online.de/katalog/media/pdf/7440430039.pdf
footprint WE-TPC-4828-MH (SMD Inductor, 2-Leads, Body 4.8x4.8x3.0 mm)
pins: 1, 2

## 7440450015
designator L?
SMD-RF-Inductor WE-LQ, L = 1.50 µH; Inductance: 1.50 µH; DatasheetVersion: ver 3, Jul-2006; PackageVersion: 2006; PackageReference: WE-LQ-L; PackageDescription: Inductor, 2-Leads, Body 4.5 x 3.2 mm; ComponentLink1Description: Manufacturer URL; ComponentLink1URL: http://www.we-online.com; ComponentLink2Description: Datasheet; ComponentLink2URL: http://www.we-online.de/katalog/media/pdf/7440450015.pdf
footprint WE-LQ-L (Inductor, 2-Leads, Body 4.5x3.2x2.9 mm)
pins: 1, 2

## 7440450018
designator L?
SMD-RF-Inductor WE-LQ, L = 1.80 µH; Inductance: 1.80 µH; DatasheetVersion: ver 3, Jul-2006; PackageVersion: 2006; PackageReference: WE-LQ-L; PackageDescription: Inductor, 2-Leads, Body 4.5 x 3.2 mm; ComponentLink1Description: Manufacturer URL; ComponentLink1URL: http://www.we-online.com; ComponentLink2Description: Datasheet; ComponentLink2URL: http://www.we-online.de/katalog/media/pdf/7440450018.pdf
footprint WE-LQ-L (Inductor, 2-Leads, Body 4.5x3.2x2.9 mm)
pins: 1, 2

## 7440450027
designator L?
SMD-RF-Inductor WE-LQ, L = 2.70 µH; Inductance: 2.70 µH; DatasheetVersion: ver 3, Jul-2006; PackageVersion: 2006; PackageReference: WE-LQ-L; PackageDescription: Inductor, 2-Leads, Body 4.5 x 3.2 mm; ComponentLink1Description: Manufacturer URL; ComponentLink1URL: http://www.we-online.com; ComponentLink2Description: Datasheet; ComponentLink2URL: http://www.we-online.de/katalog/media/pdf/7440450027.pdf
footprint WE-LQ-L (Inductor, 2-Leads, Body 4.5x3.2x2.9 mm)
pins: 1, 2

## 7440450039
designator L?
SMD-RF-Inductor WE-LQ, L = 3.90 µH; Inductance: 3.90 µH; DatasheetVersion: ver 3, Jul-2006; PackageVersion: 2006; PackageReference: WE-LQ-L; PackageDescription: Inductor, 2-Leads, Body 4.5 x 3.2 mm; ComponentLink1Description: Manufacturer URL; ComponentLink1URL: http://www.we-online.com; ComponentLink2Description: Datasheet; ComponentLink2URL: http://www.we-online.de/katalog/media/pdf/7440450039.pdf
footprint WE-LQ-L (Inductor, 2-Leads, Body 4.5x3.2x2.9 mm)
pins: 1, 2

## 7440450056
designator L?
SMD-RF-Inductor WE-LQ, L = 5.60 µH; Inductance: 5.60 µH; DatasheetVersion: ver 3, Jul-2006; PackageVersion: 2006; PackageReference: WE-LQ-L; PackageDescription: Inductor, 2-Leads, Body 4.5 x 3.2 mm; ComponentLink1Description: Manufacturer URL; ComponentLink1URL: http://www.we-online.com; ComponentLink2Description: Datasheet; ComponentLink2URL: http://www.we-online.de/katalog/media/pdf/7440450056.pdf
footprint WE-LQ-L (Inductor, 2-Leads, Body 4.5x3.2x2.9 mm)
pins: 1, 2

## 7440520012
designator L?
SMD Shielded Tiny Power Inductor WE-TPC, L = 1.20 µH; Inductance: 1.20 µH; DatasheetVersion: ver 7, Aug-2010; PackageVersion: 2010; PackageReference: WE-TPC-5818-L; PackageDescription: SMD Inductor, 2-Leads, Body 5.8 x 5.8 mm; ComponentLink1Description: Manufacturer URL; ComponentLink1URL: http://www.we-online.com; ComponentLink2Description: Datasheet; ComponentLink2URL: http://www.we-online.de/katalog/media/pdf/7440520012.pdf
footprint WE-TPC-5818-L (SMD Inductor, 2-Leads, Body 5.8x5.8x2.0 mm)
pins: 1, 2

## 7440520018
designator L?
SMD Shielded Tiny Power Inductor WE-TPC, L = 1.80 µH; Inductance: 1.80 µH; DatasheetVersion: ver 7, Aug-2010; PackageVersion: 2010; PackageReference: WE-TPC-5818-L; PackageDescription: SMD Inductor, 2-Leads, Body 5.8 x 5.8 mm; ComponentLink1Description: Manufacturer URL; ComponentLink1URL: http://www.we-online.com; ComponentLink2Description: Datasheet; ComponentLink2URL: http://www.we-online.de/katalog/media/pdf/7440520018.pdf
footprint WE-TPC-5818-L (SMD Inductor, 2-Leads, Body 5.8x5.8x2.0 mm)
pins: 1, 2

## 7440520039
designator L?
SMD Shielded Tiny Power Inductor WE-TPC, L = 3.90 µH; Inductance: 3.90 µH; DatasheetVersion: ver 7, Aug-2010; PackageVersion: 2010; PackageReference: WE-TPC-5818-L; PackageDescription: SMD Inductor, 2-Leads, Body 5.8 x 5.8 mm; ComponentLink1Description: Manufacturer URL; ComponentLink1URL: http://www.we-online.com; ComponentLink2Description: Datasheet; ComponentLink2URL: http://www.we-online.de/katalog/media/pdf/7440520039.pdf
footprint WE-TPC-5818-L (SMD Inductor, 2-Leads, Body 5.8x5.8x2.0 mm)
pins: 1, 2

## 7440530047
designator L?
SMD Shielded Tiny Power Inductor WE-TPC, L = 4.70 µH; Inductance: 4.70 µH; DatasheetVersion: ver 6, Aug-2010; PackageVersion: 2010; PackageReference: WE-TPC-5828-LH; PackageDescription: SMD Inductor, 2-Leads, Body 5.8 x 5.8 mm; ComponentLink1Description: Manufacturer URL; ComponentLink1URL: http://www.we-online.com; ComponentLink2Description: Datasheet; ComponentLink2URL: http://www.we-online.de/katalog/media/pdf/7440530047.pdf
footprint WE-TPC-5828-LH (SMD Inductor, 2-Leads, Body 5.8x5.8x3.0 mm)
pins: 1, 2

## 7440620015
designator L?
SMD Shielded Tiny Power Inductor WE-TPC, L = 1.50 µH; Inductance: 1.50 µH; DatasheetVersion: ver 5, Jan-2009; PackageVersion: 2009; PackageReference: WE-TPC-6823-X; PackageDescription: SMD Inductor, 2-Leads, Body 6.8 x 6.8 mm; ComponentLink1Description: Manufacturer URL; ComponentLink1URL: http://www.we-online.com; ComponentLink2Description: Datasheet; ComponentLink2URL: http://www.we-online.de/katalog/media/pdf/7440620015.pdf
footprint WE-TPC-6823-X (SMD Inductor, 2-Leads, Body 6.8x6.8x2.5 mm)
pins: 1, 2

## 7440650015
designator L?
SMD Shielded Tiny Power Inductor WE-TPC, L = 1.50 µH; Inductance: 1.50 µH; DatasheetVersion: ver3, Nov-2008; PackageVersion: 2008; PackageReference: WE-TPC-1028-XL; PackageDescription: SMD Inductor, 2-Leads, Body 10.0 x 10.0 mm; ComponentLink1Description: Manufacturer URL; ComponentLink1URL: http://www.we-online.com; ComponentLink2Description: Datasheet; ComponentLink2URL: http://www.we-online.de/katalog/media/pdf/7440650015.pdf
footprint WE-TPC-1028-XL (SMD Inductor, 2-Leads, Body 10.0x10.0x3.1 mm)
pins: 1, 2

## 7440650022
designator L?
SMD Shielded Tiny Power Inductor WE-TPC, L = 2.20 µH; Inductance: 2.20 µH; DatasheetVersion: ver 3, Nov-2008; PackageVersion: 2008; PackageReference: WE-TPC-1028-XL; PackageDescription: SMD Inductor, 2-Leads, Body 10.0 x 10.0 mm; ComponentLink1Description: Manufacturer URL; ComponentLink1URL: http://www.we-online.com; ComponentLink2Description: Datasheet; ComponentLink2URL: http://www.we-online.de/katalog/media/pdf/7440650022.pdf
footprint WE-TPC-1028-XL (SMD Inductor, 2-Leads, Body 10.0x10.0x3.1 mm)
pins: 1, 2

## 7440650033
designator L?
SMD Shielded Tiny Power Inductor WE-TPC, L = 3.30 µH; Inductance: 3.30 µH; DatasheetVersion: ver 3, Nov-2008; PackageVersion: 2008; PackageReference: WE-TPC-1028-XL; PackageDescription: SMD Inductor, 2-Leads, Body 10.0 x 10.0 mm; ComponentLink1Description: Manufacturer URL; ComponentLink1URL: http://www.we-online.com; ComponentLink2Description: Datasheet; ComponentLink2URL: http://www.we-online.de/katalog/media/pdf/7440650033.pdf
footprint WE-TPC-1028-XL (SMD Inductor, 2-Leads, Body 10.0x10.0x3.1 mm)
pins: 1, 2

## 7440650047
designator L?
SMD Shielded Tiny Power Inductor WE-TPC, L = 4.70 µH; Inductance: 4.70 µH; DatasheetVersion: ver 3, Nov-2008; PackageVersion: 2008; PackageReference: WE-TPC-1028-XL; PackageDescription: SMD Inductor, 2-Leads, Body 10.0 x 10.0 mm; ComponentLink1Description: Manufacturer URL; ComponentLink1URL: http://www.we-online.com; ComponentLink2Description: Datasheet; ComponentLink2URL: http://www.we-online.de/katalog/media/pdf/7440650047.pdf
footprint WE-TPC-1028-XL (SMD Inductor, 2-Leads, Body 10.0x10.0x3.1 mm)
pins: 1, 2

## 7440650068
designator L?
SMD Shielded Tiny Power Inductor WE-TPC, L = 6.80 µH; Inductance: 6.80 µH; DatasheetVersion: ver 3, Nov-2008; PackageVersion: 2008; PackageReference: WE-TPC-1028-XL; PackageDescription: SMD Inductor, 2-Leads, Body 10.0 x 10.0 mm; ComponentLink1Description: Manufacturer URL; ComponentLink1URL: http://www.we-online.com; ComponentLink2Description: Datasheet; ComponentLink2URL: http://www.we-online.de/katalog/media/pdf/7440650068.pdf
footprint WE-TPC-1028-XL (SMD Inductor, 2-Leads, Body 10.0x10.0x3.1 mm)
pins: 1, 2

## 7440650082
designator L?
SMD Shielded Tiny Power Inductor WE-TPC, L = 8.20 µH; Inductance: 8.20 µH; DatasheetVersion: ver 3, Nov-2008; PackageVersion: 2008; PackageReference: WE-TPC-1028-XL; PackageDescription: SMD Inductor, 2-Leads, Body 10.0 x 10.0 mm; ComponentLink1Description: Manufacturer URL; ComponentLink1URL: http://www.we-online.com; ComponentLink2Description: Datasheet; ComponentLink2URL: http://www.we-online.de/katalog/media/pdf/7440650082.pdf
footprint WE-TPC-1028-XL (SMD Inductor, 2-Leads, Body 10.0x10.0x3.1 mm)
pins: 1, 2

## 7440660015
designator L?
SMD Shielded Tiny Power Inductor WE-TPC, L = 1.50 µH; Inductance: 1.50 µH; DatasheetVersion: ver 4, Nov-2009; PackageVersion: 2008; PackageReference: WE-TPC-1038-XLH; PackageDescription: SMD Inductor, 2-Leads, Body 10.0 x 10.0 mm; ComponentLink1Description: Manufacturer URL; ComponentLink1URL: http://www.we-online.com; ComponentLink2Description: Datasheet; ComponentLink2URL: http://www.we-online.de/katalog/media/pdf/7440660015.pdf
footprint WE-TPC-1038-XLH (SMD Inductor, 2-Leads, Body 10.0x10.0x4.1 mm)
pins: 1, 2

## 7440660022
designator L?
SMD Shielded Tiny Power Inductor WE-TPC, L = 2.20 µH; Inductance: 2.20 µH; DatasheetVersion: ver 4, Nov-2009; PackageVersion: 2008; PackageReference: WE-TPC-1038-XLH; PackageDescription: SMD Inductor, 2-Leads, Body 10.0 x 10.0 mm; ComponentLink1Description: Manufacturer URL; ComponentLink1URL: http://www.we-online.com; ComponentLink2Description: Datasheet; ComponentLink2URL: http://www.we-online.de/katalog/media/pdf/7440660022.pdf
footprint WE-TPC-1038-XLH (SMD Inductor, 2-Leads, Body 10.0x10.0x4.1 mm)
pins: 1, 2

## 7440660035
designator L?
SMD Shielded Tiny Power Inductor WE-TPC, L = 3.50 µH; Inductance: 3.50 µH; DatasheetVersion: ver 4, Nov-2009; PackageVersion: 2008; PackageReference: WE-TPC-1038-XLH; PackageDescription: SMD Inductor, 2-Leads, Body 10.0 x 10.0 mm; ComponentLink1Description: Manufacturer URL; ComponentLink1URL: http://www.we-online.com; ComponentLink2Description: Datasheet; ComponentLink2URL: http://www.we-online.de/katalog/media/pdf/7440660035.pdf
footprint WE-TPC-1038-XLH (SMD Inductor, 2-Leads, Body 10.0x10.0x4.1 mm)
pins: 1, 2

## 7440660062
designator L?
SMD Shielded Tiny Power Inductor WE-TPC, L = 6.20 µH; Inductance: 6.20 µH; DatasheetVersion: ver 4, Nov-2009; PackageVersion: 2008; PackageReference: WE-TPC-1038-XLH; PackageDescription: SMD Inductor, 2-Leads, Body 10.0 x 10.0 mm; ComponentLink1Description: Manufacturer URL; ComponentLink1URL: http://www.we-online.com; ComponentLink2Description: Datasheet; ComponentLink2URL: http://www.we-online.de/katalog/media/pdf/7440660062.pdf
footprint WE-TPC-1038-XLH (SMD Inductor, 2-Leads, Body 10.0x10.0x4.1 mm)
pins: 1, 2

## 7440680010
designator L?
SMD Shielded Tiny Power Inductor WE-TPC, L = 1.00 µH; Inductance: 1.00 µH; DatasheetVersion: ver 1, Apr-2009; PackageVersion: 2009; PackageReference: WE-TPC-8012; PackageDescription: SMD Inductor, 2-Leads, Body 8.0 x 8.0 mm; ComponentLink1Description: Manufacturer URL; ComponentLink1URL: http://www.we-online.com; ComponentLink2Description: Datasheet; ComponentLink2URL: http://www.we-online.de/katalog/media/pdf/7440680010.pdf
footprint WE-TPC-8012 (SMD Inductor, 2-Leads, Body 8.0x8.0x1.2 mm)
part A pins: 1, 2
part B pins: 3 NC, 4 NC

## 7440680017
designator L?
SMD Shielded Tiny Power Inductor WE-TPC, L = 1.70 µH; Inductance: 1.70 µH; DatasheetVersion: ver 1, Apr-2009; PackageVersion: 2009; PackageReference: WE-TPC-8012; PackageDescription: SMD Inductor, 2-Leads, Body 8.0 x 8.0 mm; ComponentLink1Description: Manufacturer URL; ComponentLink1URL: http://www.we-online.com; ComponentLink2Description: Datasheet; ComponentLink2URL: http://www.we-online.de/katalog/media/pdf/7440680017.pdf
footprint WE-TPC-8012 (SMD Inductor, 2-Leads, Body 8.0x8.0x1.2 mm)
part A pins: 1, 2
part B pins: 3 NC, 4 NC

## 7440680027
designator L?
SMD Shielded Tiny Power Inductor WE-TPC, L = 2.70 µH; Inductance: 2.70 µH; DatasheetVersion: ver 1, Apr-2009; PackageVersion: 2009; PackageReference: WE-TPC-8012; PackageDescription: SMD Inductor, 2-Leads, Body 8.0 x 8.0 mm; ComponentLink1Description: Manufacturer URL; ComponentLink1URL: http://www.we-online.com; ComponentLink2Description: Datasheet; ComponentLink2URL: http://www.we-online.de/katalog/media/pdf/7440680027.pdf
footprint WE-TPC-8012 (SMD Inductor, 2-Leads, Body 8.0x8.0x1.2 mm)
part A pins: 1, 2
part B pins: 3 NC, 4 NC

## 7440680033
designator L?
SMD Shielded Tiny Power Inductor WE-TPC, L = 3.30 µH; Inductance: 3.30 µH; DatasheetVersion: ver 1, Apr-2009; PackageVersion: 2009; PackageReference: WE-TPC-8012; PackageDescription: SMD Inductor, 2-Leads, Body 8.0 x 8.0 mm; ComponentLink1Description: Manufacturer URL; ComponentLink1URL: http://www.we-online.com; ComponentLink2Description: Datasheet; ComponentLink2URL: http://www.we-online.de/katalog/media/pdf/7440680033.pdf
footprint WE-TPC-8012 (SMD Inductor, 2-Leads, Body 8.0x8.0x1.2 mm)
part A pins: 1, 2
part B pins: 3 NC, 4 NC

## 7440680047
designator L?
SMD Shielded Tiny Power Inductor WE-TPC, L = 4.70 µH; Inductance: 4.70 µH; DatasheetVersion: ver 1, Apr-2009; PackageVersion: 2009; PackageReference: WE-TPC-8012; PackageDescription: SMD Inductor, 2-Leads, Body 8.0 x 8.0 mm; ComponentLink1Description: Manufacturer URL; ComponentLink1URL: http://www.we-online.com; ComponentLink2Description: Datasheet; ComponentLink2URL: http://www.we-online.de/katalog/media/pdf/7440680047.pdf
footprint WE-TPC-8012 (SMD Inductor, 2-Leads, Body 8.0x8.0x1.2 mm)
part A pins: 1, 2
part B pins: 3 NC, 4 NC